# Altium schematic symbol library Schlib1.SchLib: 44 symbols
Pins are listed as number, name and electrical type; pins without a type are passive.

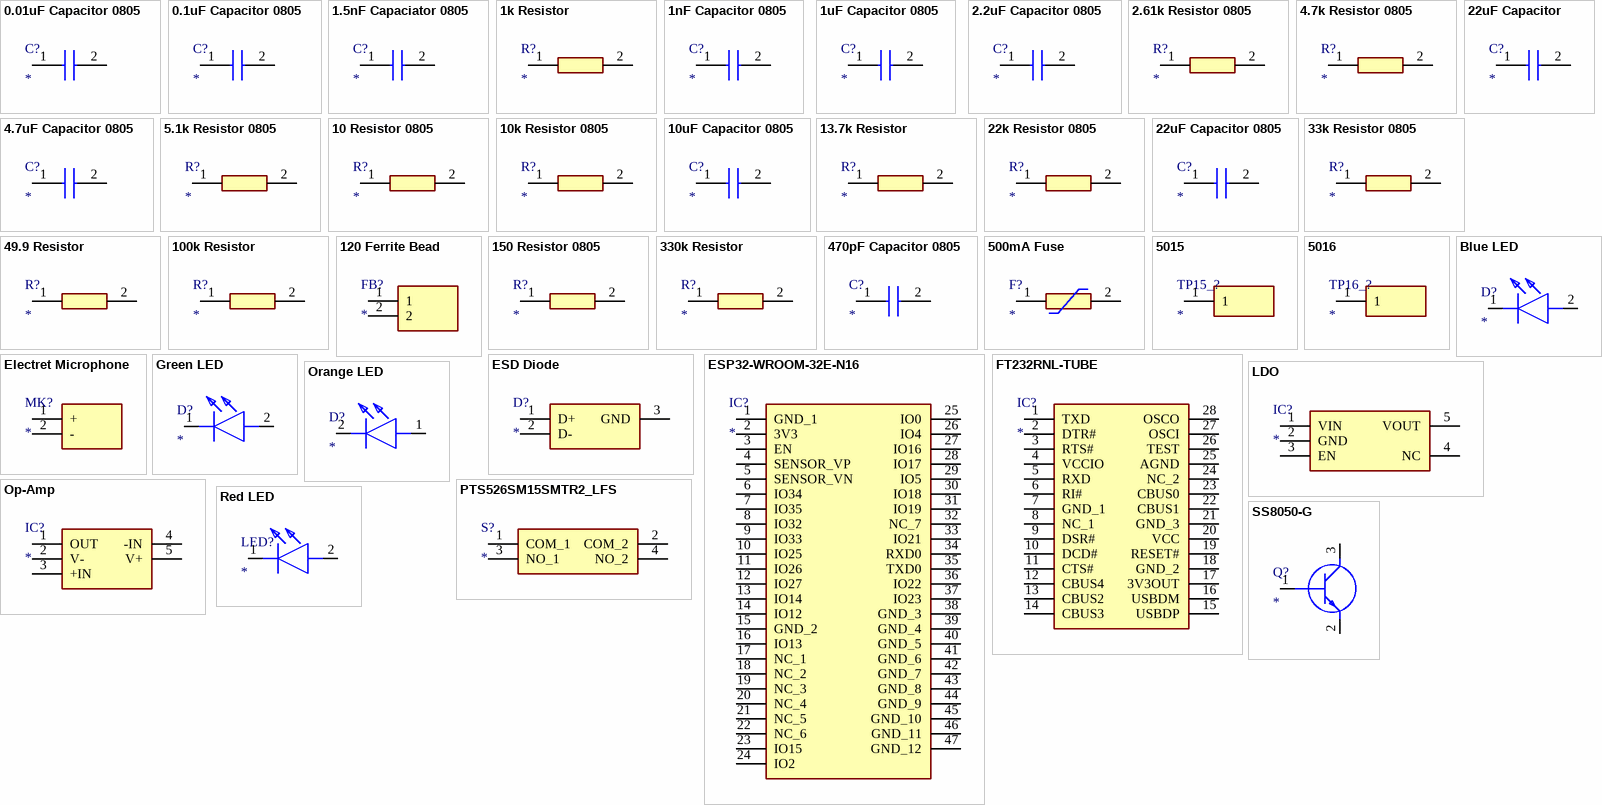
[diagram p0: symbols 0.01uF Capacitor 0805 to SS8050-G]

## 0.01uF Capacitor 0805
designator C?
Capacitor; Manufacturer_Name: Yageo Group; Manufacturer_Part_Number: C0805C103K1RECTU; Datasheet Link: https://www.yageogroup.com/content/datasheet/asset/file/KEM_C1090_X7R_ESD; Height: 1.1mm
footprint C0805
pins: 1, 2

## 0.1uF Capacitor 0805
designator C?
Capacitor; Manufacturer_Name: Yageo Group; Manufacturer_Part_Number: C0805C104K5RAC-TU; Datasheet Link: https://componentsearchengine.com/Datasheets/2/C0805C104K5RAC-TU.pdf; Height: 0.88mm; Arrow Part Number: C0805C104K5RAC-TU; Arrow Price/Stock: https://www.arrow.com/en/products/c0805c104k5ractu/kemet-corporation
footprint CAPC2012X88N
pins: 1, 2

## 1.5nF Capaciator 0805
designator C?
Capacitor; Manufacturer_Name: Yageo Group; Manufacturer_Part_Number: C0805C152J5GACTU; Datasheet Link: https://www.yageogroup.com/content/datasheet/asset/file/KEM_C1003_C0G_SMD; Height: 1.1mm
footprint C0805
pins: 1, 2

## 1k Resistor
designator R?
Resistor; Manufacturer_Name: Yageo Group; Manufacturer_Part_Number: RC0805FR-071KL; Datasheet Link: https://www.yageo.com/upload/media/product/productsearch/datasheet/rchip/PYu-RC_Group_51_RoHS_L_11.pdf; Height: 0.6mm; Mouser Part Number: 603-RC0805FR-071KL; Mouser Price/Stock: https://www.mouser.co.uk/ProductDetail/YAGEO/RC0805FR-071KL?qs=1ogmaHw32WJjeGY0DHXakQ%3D%3D; Arrow Part Number: RC0805FR-071KL; Arrow Price/Stock: https://www.arrow.com/en/products/rc0805fr-071kl/yageo?utm_currency=USD&region=europe
footprint RESC2012X60N
pins: 1, 2

## 1nF Capacitor 0805
designator C?
Capacitor; Manufacturer_Name: Yageo Group; Manufacturer_Part_Number: C0805C102J5GAC-TU; Datasheet Link: https://www.kemet.com/specsheet/C0805C102J5GACTU; Height: 0.88mm; Arrow Part Number: C0805C102J5GAC-TU; Arrow Price/Stock: https://www.arrow.com/en/products/c0805c102j5gactu/kemet-corporation
footprint CAPC2012X88N
pins: 1, 2

## 1uF Capacitor 0805
designator C?
Capacitor; Manufacturer_Name: Murata Electronics; Manufacturer_Part_Number: GRM21BR71A105KA01L; Description: Murata 1uF +/-10% 10 V dc X7R Dielectric SMD Ceramic Multilayer Capacitor 0805; Datasheet Link: https://search.murata.co.jp/Ceramy/image/img/A01X/G101/ENG/GRM21BR71A105KA01-01A.pdf; Height: 1.45mm; Mouser Part Number: 81-GRM40X105K10L; Mouser Price/Stock: https://www.mouser.co.uk/ProductDetail/Murata-Electronics/GRM21BR71A105KA01L?qs=Rc6BINVvJ%2FjIxBp0DnLtzA%3D%3D; Arrow Part Number: GRM21BR71A105KA01L; Arrow Price/Stock: https://www.arrow.com/en/products/grm21br71a105ka01l/murata-manufacturing
footprint CAPC2012X145N
pins: 1, 2

## 2.2uF Capacitor 0805
designator C?
Capacitor; Manufacturer_Name: Yageo Group; Manufacturer_Part_Number: C0805C225K8PACTU; Datasheet Link: https://www.yageogroup.com/content/datasheet/asset/file/KEM_C1006_X5R_SMD; Height: 1.1mm; Mouser Part Number: 80-C0805C225K8P; Mouser Price/Stock: https://www.mouser.co.uk/ProductDetail/KEMET/C0805C225K8PACTU?qs=hIohqi1S7IpPfscGpw9Z0g%3D%3D; Arrow Part Number: C0805C225K8PACTU; Arrow Price/Stock: https://www.arrow.com/en/products/c0805c225k8pactu/kemet-corporation?region=nac
footprint C0805
pins: 1, 2

## 2.61k Resistor 0805
designator R?
Resistor; Manufacturer_Name: Yageo Group; Manufacturer_Part_Number: RC0805FR-072K61L; Datasheet Link: http://www.yageo.com/documents/recent/PYu-RC_Group_51_RoHS_L_10.pdf; Height: 0.6mm; Mouser Part Number: 603-RC0805FR-072K61L; Mouser Price/Stock: https://www.mouser.co.uk/ProductDetail/Yageo/RC0805FR-072K61L?qs=QrWOOBGzeCaZVRFf6Fg7Ew%3D%3D; Arrow Part Number: RC0805FR-072K61L; Arrow Price/Stock: https://www.arrow.com/en/products/rc0805fr-072k61l/yageo?region=nac
footprint RESC2012X60N
pins: 1, 2

## 4.7k Resistor 0805
designator R?
Resistor; Manufacturer_Name: Yageo Group; Manufacturer_Part_Number: RC0805FR-074K7L; Datasheet Link: http://www.yageo.com/documents/recent/PYu-RC_Group_51_RoHS_L_10.pdf; Height: 0.6mm; Mouser Part Number: 603-RC0805FR-074K7L; Mouser Price/Stock: https://www.mouser.co.uk/ProductDetail/YAGEO/RC0805FR-074K7L?qs=VLOqbHBAO5cYXbrd7RTmuQ%3D%3D; Arrow Part Number: RC0805FR-074K7L; Arrow Price/Stock: https://www.arrow.com/en/products/rc0805fr-074k7l/yageo?utm_currency=USD&region=nac
footprint RESC2012X60N
pins: 1, 2

## 4.7uF Capacitor 0805
designator C?
Capacitor; Manufacturer_Name: Yageo Group; Manufacturer_Part_Number: C0805X475M8RACTU; Datasheet Link: https://www.yageogroup.com/content/datasheet/asset/file/KEM_C1013_X7R_FT-CAP_SMD; Height: 1.1mm; Mouser Part Number: 80-C0805X475M8R; Mouser Price/Stock: https://www.mouser.com/Search/Refine.aspx?Keyword=80-C0805X475M8R; Arrow Part Number: C0805X475M8RACTU; Arrow Price/Stock: https://www.arrow.com/en/products/c0805x475m8ractu/kemet-corporation
footprint C0805
pins: 1, 2

## 5.1k Resistor 0805
designator R?
Resistor; Manufacturer_Name: Vishay; Manufacturer_Part_Number: CRCW08055K10JNEAHP; Datasheet Link: https://componentsearchengine.com/Datasheets/1/CRCW08051R00FKEAHP.pdf; Height: 0.6mm; Mouser Part Number: 71-CRCW08055K10JNEAH; Mouser Price/Stock: https://www.mouser.co.uk/ProductDetail/Vishay/CRCW08055K10JNEAHP?qs=hWgE7mdIu5RTpd75lMnc9Q%3D%3D
footprint RESC2012X60N
pins: 1, 2

## 10 Resistor 0805
designator R?
Resistor; Manufacturer_Name: Vishay; Manufacturer_Part_Number: CRCW080510R0FKEA; Datasheet Link: http://www.vishay.com/docs/20035/dcrcwe3.pdf; Height: 0.5mm; Mouser Part Number: 71-CRCW0805-10-E3; Mouser Price/Stock: https://www.mouser.co.uk/ProductDetail/Vishay-Dale/CRCW080510R0FKEA?qs=LOX6nxTstiaUTSGGiXqphg%3D%3D; Arrow Part Number: CRCW080510R0FKEA; Arrow Price/Stock: https://www.arrow.com/en/products/crcw080510r0fkea/vishay
footprint RESC2012X50N
pins: 1, 2

## 10k Resistor 0805
designator R?
Resistor; Manufacturer_Name: Panasonic; Manufacturer_Part_Number: ERA-6AED103V; Datasheet Link: https://industrial.panasonic.com/cdbs/www-data/pdf/RDM0000/AOA0000C307.pdf; Height: 0.6mm; Mouser Part Number: 667-ERA-6AED103V; Mouser Price/Stock: https://www.mouser.co.uk/ProductDetail/Panasonic/ERA-6AED103V?qs=MNPzkKEzRtSGdYymydDO9g%3D%3D; Arrow Part Number: ERA-6AED103V; Arrow Price/Stock: https://www.arrow.com/en/products/era-6aed103v/panasonic?region=nac
footprint ERA6AEB101V
pins: 1, 2

## 10uF Capacitor 0805
designator C?
Capacitor; Manufacturer_Name: Yageo Group; Manufacturer_Part_Number: C0805C106K8PACTU-2.5; Datasheet Link: https://www.kemet.com/specsheet/C0805C106K8PACTU; Height: 1.4mm; Mouser Part Number: N/A; Mouser Price/Stock: https://www.mouser.com/Search/Refine.aspx?Keyword=N%2FA
footprint CAPC2012X140N
pins: 1, 2

## 13.7k Resistor
designator R?
Resistor; Manufacturer_Name: Vishay; Manufacturer_Part_Number: CRCW080513K7FKEA; Datasheet Link: http://www.vishay.com/docs/20035/dcrcwe3.pdf; Height: 0.5mm; Mouser Part Number: 71-CRCW0805-13.7K-E3; Mouser Price/Stock: https://www.mouser.co.uk/ProductDetail/Vishay-Dale/CRCW080513K7FKEA?qs=0y7Riw94L4gT41R9LuV7TQ%3D%3D
footprint RESC2012X50N
pins: 1, 2

## 22k Resistor 0805
designator R?
Resistor; Manufacturer_Name: Vishay; Manufacturer_Part_Number: CRCW080522K0FKEA; Datasheet Link: http://www.vishay.com/docs/20035/dcrcwe3.pdf; Height: 0.5mm; Mouser Part Number: 71-CRCW0805-22K-E3; Mouser Price/Stock: https://www.mouser.co.uk/ProductDetail/Vishay-Dale/CRCW080522K0FKEA?qs=fIsz7OpyEY835T0D7WGkRw%3D%3D; Arrow Part Number: CRCW080522K0FKEA; Arrow Price/Stock: https://www.arrow.com/en/products/crcw080522k0fkea/vishay?region=europe
footprint RESC2012X50N
pins: 1, 2

## 22uF Capacitor
designator C?
Capacitor; Manufacturer_Name: Murata Electronics; Manufacturer_Part_Number: GRM21BR61A105KA01L; Datasheet Link: https://search.murata.co.jp/Ceramy/image/img/A01X/G101/ENG/GRM21BR61A105KA01-01A.pdf; Height: 1.45mm; Mouser Part Number: 81-GRM21R61A105KA01L; Mouser Price/Stock: https://www.mouser.co.uk/ProductDetail/Murata-Electronics/GRM21BR61A105KA01L?qs=E0xLyVzY5mZAKW6GqdeKBA%3D%3D; Arrow Part Number: GRM21BR61A105KA01L; Arrow Price/Stock: https://www.arrow.com/en/products/grm21br61a105ka01l/murata-manufacturing
footprint GRM21BR60J226ME39L
pins: 1, 2

## 22uF Capacitor 0805
designator C?
Capacitor; Manufacturer_Name: Yageo Group; Manufacturer_Part_Number: C0805C226M8PAC7210; Datasheet Link: https://www.yageogroup.com/content/datasheet/asset/file/KEM_C1006_X5R_SMD; Height: 1.1mm; Mouser Part Number: 80-C0805C226M8P7210; Mouser Price/Stock: https://www.mouser.co.uk/ProductDetail/KEMET/C0805C226M8PAC7210?qs=cGEy3R83DS8oofmRMj%2F42w%3D%3D
footprint C0805
pins: 1, 2

## 33k Resistor 0805
designator R?
Resistor; Manufacturer_Name: Vishay; Manufacturer_Part_Number: CRCW080533K0FKEA; Datasheet Link: http://www.vishay.com/docs/20035/dcrcwe3.pdf; Height: 0.5mm; Mouser Part Number: 71-CRCW0805-33K-E3; Mouser Price/Stock: https://www.mouser.co.uk/ProductDetail/Vishay-Dale/CRCW080533K0FKEA?qs=TrAHXYCGmqx3iFbOFg6c8g%3D%3D; Arrow Part Number: CRCW080533K0FKEA; Arrow Price/Stock: https://www.arrow.com/en/products/crcw080533k0fkea/vishay?region=nac
footprint RESC2012X50N
pins: 1, 2

## 49.9 Resistor
designator R?
Resistor; Manufacturer_Name: Vishay; Manufacturer_Part_Number: CRCW080549R9FKEA; Datasheet Link: http://www.vishay.com/docs/20035/dcrcwe3.pdf; Height: 0.5mm; Mouser Part Number: 71-CRCW0805-49.9-E3; Mouser Price/Stock: https://www.mouser.co.uk/ProductDetail/Vishay-Dale/CRCW080549R9FKEA?qs=kkyyugUlSrO9cI3mexpXiA%3D%3D; Arrow Part Number: CRCW080549R9FKEA; Arrow Price/Stock: https://www.arrow.com/en/products/crcw080549r9fkea/vishay
footprint RESC2012X50N
pins: 1, 2

## 100k Resistor
designator R?
Resistor; Manufacturer_Name: Vishay; Manufacturer_Part_Number: CRCW0805100KFKEAHP; Datasheet Link: https://componentsearchengine.com/Datasheets/1/CRCW08051R00FKEAHP.pdf; Height: 0.6mm; Mouser Part Number: 71-CRCW0805100KFKEAH; Mouser Price/Stock: https://www.mouser.co.uk/ProductDetail/Vishay-Dale/CRCW0805100KFKEAHP?qs=k2%2FDWSARqgFvzezk%252B9pwaw%3D%3D; Arrow Part Number: CRCW0805100KFKEAHP; Arrow Price/Stock: https://www.arrow.com/en/products/crcw0805100kfkeahp/vishay.html?utm_currency=USD&region=europe
footprint RESC2012X60N
pins: 1, 2

## 120 Ferrite Bead
designator FB?
Filter; Manufacturer_Name: Murata Electronics; Manufacturer_Part_Number: BLM21PG121SN1D; Datasheet Link: https://www.murata.com/en-us/products/productdetail?partno=BLM21PG121SN1%23; Height: 1.05mm; Mouser Part Number: 81-BLM21PG121SN1D; Mouser Price/Stock: https://www.mouser.co.uk/ProductDetail/Murata-Electronics/BLM21PG121SN1D?qs=MY6wChARw2zaR3kESBLGTQ%3D%3D; Arrow Part Number: BLM21PG121SN1D; Arrow Price/Stock: https://www.arrow.com/en/products/blm21pg121sn1d/murata-manufacturing?utm_currency=USD&region=europe
footprint BLM21AG102BH1J
pins: 1, 2

## 150 Resistor 0805
designator R?
Resistor; Manufacturer_Name: Vishay; Manufacturer_Part_Number: CRCW0805150RFKEA; Datasheet Link: http://www.vishay.com/docs/20035/dcrcwe3.pdf; Height: 0.5mm; Mouser Part Number: 71-CRCW0805-150-E3; Mouser Price/Stock: https://www.mouser.co.uk/ProductDetail/Vishay-Dale/CRCW0805150RFKEA?qs=bMjB6bAaLEMlCPoDkVBLpg%3D%3D; Arrow Part Number: CRCW0805150RFKEA; Arrow Price/Stock: https://www.arrow.com/en/products/crcw0805150rfkea/vishay?region=nac
footprint RESC2012X50N
pins: 1, 2

## 330k Resistor
designator R?
Resistor; Manufacturer_Name: Vishay; Manufacturer_Part_Number: CRCW0805330KFKEA; Datasheet Link: http://www.vishay.com/docs/20035/dcrcwe3.pdf; Height: 0.5mm; Mouser Part Number: 71-CRCW0805330KFKEA; Mouser Price/Stock: https://www.mouser.co.uk/ProductDetail/Vishay-Dale/CRCW0805330KFKEA?qs=TrAHXYCGmqzWYzXuWlB%252BLQ%3D%3D; Arrow Part Number: CRCW0805330KFKEA; Arrow Price/Stock: https://www.arrow.com/en/products/crcw0805330kfkea/vishay
footprint RESC2012X50N
pins: 1, 2

## 470pF Capacitor 0805
designator C?
Capacitor; Manufacturer_Name: Yageo Group; Manufacturer_Part_Number: C0805C471J5GACTU; Datasheet Link: https://www.yageogroup.com/content/datasheet/asset/file/KEM_C1003_C0G_SMD; Height: 1.1mm; Mouser Part Number: 80-C0805C471J5G; Mouser Price/Stock: https://www.mouser.co.uk/ProductDetail/KEMET/C0805C471J5GACTU?qs=qljflqjpaYcqFd34RtLFPQ%3D%3D; Arrow Part Number: C0805C471J5GACTU; Arrow Price/Stock: https://www.arrow.com/en/products/c0805c471j5gactu/kemet-corporation.html?utm_currency=USD&region=nac
footprint C0805
pins: 1, 2

## 500mA Fuse
designator F?
Resettable Fuse; Manufacturer_Name: LITTELFUSE; Manufacturer_Part_Number: 1206L050YR; Datasheet Link: https://m.littelfuse.com/~/media/electronics/datasheets/resettable_ptcs/littelfuse_ptc_1206l_datasheet.pdf.pdf; Height: 0.75mm; Mouser Part Number: 576-1206L050YR; Mouser Price/Stock: https://www.mouser.co.uk/ProductDetail/Littelfuse/1206L050YR?qs=PWhpLWeW8wckT8hV5jLiAA%3D%3D; Arrow Part Number: 1206L050YR; Arrow Price/Stock: https://www.arrow.com/en/products/1206l050yr/littelfuse.html?utm_currency=USD&region=europe
footprint 1206L05015YR
pins: 1, 2

## 5015
designator TP15_?
Test Pad; Manufacturer_Name: Keystone Electronics; Manufacturer_Part_Number: 5015; Datasheet Link: http://www.keyelco.com/product-pdf.cfm?p=1353; Height: 1.52mm; Mouser Part Number: 534-5015; Mouser Price/Stock: https://www.mouser.co.uk/ProductDetail/Keystone-Electronics/5015?qs=qOqV1E1P08ShW56PtUq2FA%3D%3D; Arrow Part Number: 5015; Arrow Price/Stock: https://www.arrow.com/en/products/5015/keystone-electronics?utm_currency=USD&region=europe
footprint 5015
pins: 1

## 5016
designator TP16_?
Test Pad; Manufacturer_Name: Keystone Electronics; Manufacturer_Part_Number: 5016; Datasheet Link: http://www.keyelco.com/product-pdf.cfm?p=1354; Mouser Part Number: 534-5016; Mouser Price/Stock: https://www.mouser.co.uk/ProductDetail/Keystone-Electronics/5016?qs=qOqV1E1P08QbNAXL8l0G1A%3D%3D; Arrow Part Number: 5016; Arrow Price/Stock: https://www.arrow.com/en/products/5016/keystone-electronics?utm_currency=USD&region=europe
footprint 5016
pins: 1

## Blue LED
designator D?
LED; Manufacturer_Name: Kingbright; Manufacturer_Part_Number: APT2012LVBC/D; Datasheet Link: https://componentsearchengine.com/Datasheets/1/APT2012LVBC_D.pdf; Height: 0.85mm; Mouser Part Number: 604-APT2012LVBCD; Mouser Price/Stock: https://www.mouser.co.uk/ProductDetail/Kingbright/APT2012LVBC-D?qs=6oMev5NRZMGErJYT6KZLXg%3D%3D; Arrow Part Number: APT2012LVBC/D; Arrow Price/Stock: https://www.arrow.com/en/products/apt2012lvbcd/kingbright?utm_currency=USD&region=nac
footprint LEDC2012X85N
pins: 1 K, 2 A

## Electret Microphone
designator MK?
Microphone; Manufacturer_Name: PUI Audio; Manufacturer_Part_Number: POM-3535P-3-R; Datasheet Link: https://componentsearchengine.com/Datasheets/1/POM-3535P-3-R.pdf; Height: 4mm; Mouser Part Number: 665-POM-3535P-3-R; Mouser Price/Stock: https://www.mouser.co.uk/ProductDetail/PUI-Audio/POM-3535P-3-R?qs=SFtkwOqhffnBMPjb%2F%2FZCSg%3D%3D
footprint POM3535P3R
pins: 1 +, 2 -

## ESD Diode
designator D?
Diode; Manufacturer_Name: Texas Instruments; Manufacturer_Part_Number: TPD2EUSB30DRTR; Datasheet Link: https://datasheet.datasheetarchive.com/originals/distributors/SFDatasheet-11/sf-000234749.pdf; Height: 0.5mm; Mouser Part Number: 595-TPD2EUSB30DRTR; Mouser Price/Stock: https://www.mouser.co.uk/ProductDetail/Texas-Instruments/TPD2EUSB30DRTR?qs=%2Fqzd9s%252BcLd6bPJi5HXCDvw%3D%3D; Arrow Part Number: TPD2EUSB30DRTR; Arrow Price/Stock: https://www.arrow.com/en/products/tpd2eusb30drtr/texas-instruments?utm_currency=USD&region=nac
footprint SOTFL35P100X50-3N
pins: 1 D+, 2 D-, 3 GND

## ESP32-WROOM-32E-N16
designator IC?
Integrated Circuit; Manufacturer_Name: Espressif Systems; Manufacturer_Part_Number: ESP32-WROOM-32E-N16; Datasheet Link: https://www.espressif.com/sites/default/files/documentation/esp32-wroom-32e_esp32-wroom-32ue_datasheet_en.pdf; Height: 3.25mm; Mouser Part Number: 356-ESP32WRM32E128PH; Mouser Price/Stock: https://www.mouser.co.uk/ProductDetail/Espressif-Systems/ESP32-WROOM-32E-N16?qs=Li%252BoUPsLEnsC4cA%252BUYB2Bw%3D%3D
footprint ESP32WROOM32EN16
pins: 1 GND_1, 2 3V3, 3 EN, 4 SENSOR_VP, 5 SENSOR_VN, 6 IO34, 7 IO35, 8 IO32, 9 IO33, 10 IO25, 11 IO26, 12 IO27, 13 IO14, 14 IO12, 15 GND_2, 16 IO13, 17 NC_1, 18 NC_2, 19 NC_3, 20 NC_4, 21 NC_5, 22 NC_6, 23 IO15, 24 IO2, 25 IO0, 26 IO4, 27 IO16, 28 IO17, 29 IO5, 30 IO18, 31 IO19, 32 NC_7, 33 IO21, 34 RXD0, 35 TXD0, 36 IO22, 37 IO23, 38 GND_3, 39 GND_4, 40 GND_5, 41 GND_6, 42 GND_7, 43 GND_8, 44 GND_9, 45 GND_10, 46 GND_11, 47 GND_12

## FT232RNL-TUBE
designator IC?
Integrated Circuit; Manufacturer_Name: FTDI Chip; Manufacturer_Part_Number: FT232RNL-TUBE; Datasheet Link: https://ftdichip.com/wp-content/uploads/2023/03/DS_FT232RN.pdf; Height: 2mm; Mouser Part Number: 895-FT232RNL-TUBE; Mouser Price/Stock: https://www.mouser.co.uk/ProductDetail/FTDI/FT232RNL-TUBE?qs=By6Nw2ByBD3n6DWgWW3egA%3D%3D; Arrow Part Number: FT232RNL-TUBE; Arrow Price/Stock: https://www.arrow.com/en/products/ft232rnl-tube/ftdi-chip?utm_currency=USD&region=europe
footprint SOP65P780X200-28N
pins: 1 TXD, 2 DTR#, 3 RTS#, 4 VCCIO, 5 RXD, 6 RI#, 7 GND_1, 8 NC_1, 9 DSR#, 10 DCD#, 11 CTS#, 12 CBUS4, 13 CBUS2, 14 CBUS3, 15 USBDP, 16 USBDM, 17 3V3OUT, 18 GND_2, 19 RESET#, 20 VCC, 21 GND_3, 22 CBUS1, 23 CBUS0, 24 NC_2, 25 AGND, 26 TEST, 27 OSCI, 28 OSCO

## Green LED
designator D?
LED; Manufacturer_Name: Kingbright; Manufacturer_Part_Number: APT2012SGC; Datasheet Link: http://www.us.kingbright.com/images/catalog/SPEC/APT2012SGC.pdf; Height: 0.85mm; Mouser Part Number: 604-APT2012SGC; Mouser Price/Stock: https://www.mouser.co.uk/ProductDetail/Kingbright/APT2012SGC?qs=SxaZfIVsCL28XycY%2FuxqiQ%3D%3D; Arrow Part Number: APT2012SGC; Arrow Price/Stock: https://www.arrow.com/en/products/apt2012sgc/kingbright?region=nac
footprint LEDC2012X85N
pins: 1 K, 2 A

## LDO
designator IC?
Integrated Circuit; Manufacturer_Name: Diodes Incorporated; Manufacturer_Part_Number: AP2112K-3.3TRG1; Datasheet Link: https://www.diodes.com//assets/Datasheets/AP2112.pdf; Height: 1.4mm; Mouser Part Number: 621-AP2112K-3.3TRG1; Mouser Price/Stock: https://www.mouser.co.uk/ProductDetail/Diodes-Incorporated/AP2112K-3.3TRG1?qs=x6A8l6qLYDDPYHosCdzh%2FA%3D%3D; Arrow Part Number: AP2112K-3.3TRG1; Arrow Price/Stock: https://www.arrow.com/en/products/ap2112k-3-3trg1_3/diodes-incorporated.html?utm_currency=USD&region=nac
footprint SOT95P285X140-5N
pins: 1 VIN, 2 GND, 3 EN, 4 NC, 5 VOUT

## Op-Amp
designator IC?
Integrated Circuit; Manufacturer_Name: Texas Instruments; Manufacturer_Part_Number: OPA172IDBVR; Datasheet Link: http://www.ti.com/lit/gpn/opa172; Height: 1.45mm; Mouser Part Number: 595-OPA172IDBVR; Mouser Price/Stock: https://www.mouser.co.uk/ProductDetail/Texas-Instruments/OPA172IDBVR?qs=%2Fd%252BFzHvH4c1o%2FNGwem0IYA%3D%3D; Arrow Part Number: OPA172IDBVR; Arrow Price/Stock: https://www.arrow.com/en/products/opa172idbvr/texas-instruments?utm_currency=USD&region=nac
footprint SOT95P280X145-5N
pins: 1 OUT, 2 V-, 3 +IN, 4 -IN, 5 V+

## Orange LED
designator D?
LED; Manufacturer_Name: Kingbright; Manufacturer_Part_Number: APT2012SECK/J3-PRV; Datasheet Link: https://www.mouser.ph/ProductDetail/Kingbright/APT2012SECK-J3-PRV?qs=D2TOvUWgdJ6T9J6WfI%252BQOg%3D%3D; Height: 0.85mm; Mouser Part Number: 604-APT2012SECKJ3PRV; Mouser Price/Stock: https://www.mouser.co.uk/ProductDetail/Kingbright/APT2012SECK-J3-PRV?qs=D2TOvUWgdJ6T9J6WfI%252BQOg%3D%3D; Arrow Part Number: APT2012SECK/J3-PRV; Arrow Price/Stock: https://www.arrow.com/en/products/apt2012seckj3-prv/kingbright?region=nac
footprint APT2012SECKJ3PRV
pins: 1 A, 2 K

## PTS526SM15SMTR2_LFS
designator S?
Switch; Manufacturer_Name: LITTELFUSE; Manufacturer_Part_Number: PTS526SM15SMTR2 LFS; Datasheet Link: https://www.ckswitches.com/media/2780/pts526.pdf; Height: 1.65mm; Mouser Part Number: 611-PTS526SM15SMTR2L; Mouser Price/Stock: https://www.mouser.co.uk/ProductDetail/CK/PTS526SM15SMTR2-LFS?qs=Imq1NPwxi75LpUh6FiCy2w%3D%3D
footprint PTS526SM15SMTR2LFS
pins: 1 COM_1, 2 COM_2, 3 NO_1, 4 NO_2

## Red LED
designator LED?
LED; Manufacturer_Name: Kingbright; Manufacturer_Part_Number: APT2012EC; Datasheet Link: http://www.us.kingbright.com/images/catalog/SPEC/APT2012EC.pdf; Height: 0.85mm; Mouser Part Number: 604-APT2012EC; Mouser Price/Stock: https://www.mouser.co.uk/ProductDetail/Kingbright/APT2012EC?qs=sXafwHSx%252BU%252BiK4iO%2FHnV4A%3D%3D; Arrow Part Number: APT2012EC; Arrow Price/Stock: https://www.arrow.com/en/products/apt2012ec/kingbright?region=nac
footprint LEDC2012X85N
pins: 1 K, 2 A

## SS8050-G
designator Q?
Transistor BJT NPN; Manufacturer_Name: Comchip Technology; Manufacturer_Part_Number: SS8050-G; Datasheet Link: https://datasheet.datasheetarchive.com/originals/distributors/DKDS-12/229454.pdf; Height: 1.15mm; Mouser Part Number: 750-SS8050-G; Mouser Price/Stock: https://www.mouser.co.uk/ProductDetail/Comchip-Technology/SS8050-G?qs=LLUE9lz1YbcHg%252BWLMAtcrQ%3D%3D; Arrow Part Number: SS8050-G; Arrow Price/Stock: https://www.arrow.com/en/products/ss8050-g/comchip-technology?region=nac
footprint SOT95P240X115-3N
pins: 1 B, 2 E, 3 C

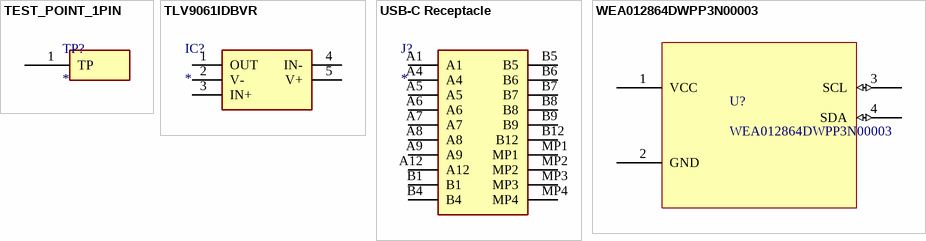
[diagram p1: symbols TEST_POINT_1PIN to WEA012864DWPP3N00003]

## TEST_POINT_1PIN
designator TP?
1.5mm Bare Test Pad
footprint TESTPAD_1P5MM
pins: 1 TP

## TLV9061IDBVR
designator IC?
Integrated Circuit; Manufacturer_Name: Texas Instruments; Manufacturer_Part_Number: TLV9061IDBVR; Datasheet Link: http://www.ti.com/lit/gpn/tlv9061; Height: 1.45mm; Mouser Part Number: 595-TLV9061IDBVR; Mouser Price/Stock: https://www.mouser.co.uk/ProductDetail/Texas-Instruments/TLV9061IDBVR?qs=w%2Fv1CP2dgqpra2GA6pq5aQ%3D%3D; Arrow Part Number: TLV9061IDBVR; Arrow Price/Stock: https://www.arrow.com/en/products/tlv9061idbvr/texas-instruments?utm_currency=USD&region=nac
footprint SOT95P280X145-5N
pins: 1 OUT, 2 V-, 3 IN+, 4 IN-, 5 V+

## USB-C Receptacle
designator J?
Connector; Manufacturer_Name: GCT (GLOBAL CONNECTOR TECHNOLOGY); Manufacturer_Part_Number: USB4110-GF-A; Datasheet Link: https://gct.co/files/drawings/usb4110.pdf; Height: 3.26mm; Mouser Part Number: 640-USB4110-GF-A; Mouser Price/Stock: https://www.mouser.co.uk/ProductDetail/GCT/USB4110-GF-A?qs=KUoIvG%2F9IlYiZvIXQjyJeA%3D%3D
footprint USB4110GFA
pins: A1, A4, A5, A6, A7, A8, A9, A12, B1, B4, B5, B6, B7, B8, B9, B12, MP1, MP2, MP3, MP4

## WEA012864DWPP3N00003
designator U?
OLED_128x64_I2C
footprint OLED_128x64_I2C (WEA012864DWPP3N00003)
pins: 1 VCC (power), 2 GND (power), 3 SCL (io), 4 SDA (io)